# EAGLE library part KWH018ST14-F01_4WSPI (library 1in8_breakout)
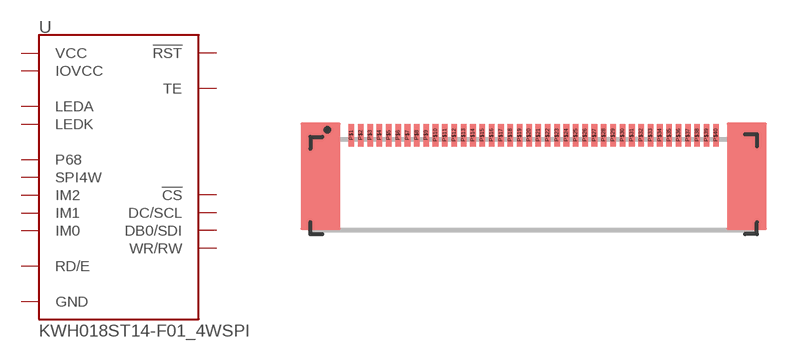
[diagram p1: symbol with the pads of FPC05040-17204; footprint FPC05040-17204]

Designator prefix U

## KWH018ST14-F01_4WSPI  [FPC05040-17204]
P$1  GND
P$6  GND
P$7  IM0
P$8  IM1
P$9  IM2
P$10  P68
P$11  SPI4W
P$12  !CS
P$13  DC/SCL
P$14  WR/RW
P$15  RD/E
P$16  DB0/SDI
P$17  GND
P$18  GND
P$19  GND
P$20  GND
P$21  GND
P$22  GND
P$23  GND
P$24  GND
P$25  GND
P$26  GND
P$27  GND
P$28  GND
P$29  GND
P$30  GND
P$31  GND
P$32  GND
P$33  GND
P$34  TE
P$35  IOVCC
P$36  VCC
P$37  !RST
P$38  GND
P$39  LEDK
P$40  LEDA

## KWH018ST14-F01_4WSPI-REVERSE  [FPC05040-17204]
P$1  LEDA
P$2  LEDK
P$3  GND
P$4  !RST
P$5  VCC
P$6  IOVCC
P$7  TE
P$8  GND
P$9  GND
P$10  GND
P$11  GND
P$12  GND
P$13  GND
P$14  GND
P$15  GND
P$16  GND
P$17  GND
P$18  GND
P$19  GND
P$20  GND
P$21  GND
P$22  GND
P$23  GND
P$24  GND
P$25  DB0/SDI
P$26  RD/E
P$27  WR/RW
P$28  DC/SCL
P$29  !CS
P$30  SPI4W
P$31  P68
P$32  IM2
P$33  IM1
P$34  IM0
P$35  GND
P$40  GND

## Footprint FPC05040-17204 (pad centres in mm)
This is a 40-pin FPC connector supplied by Atom. SparkFun SKU is CONN-14082
smd 0.3 x 1.2: P$1 -9.75,0.6; P$2 -9.25,0.6; P$3 -8.75,0.6; P$4 -8.25,0.6; P$5 -7.75,0.6; P$6 -7.25,0.6; P$7 -6.75,0.6; P$8 -6.25,0.6; P$9 -5.75,0.6; P$10 -5.25,0.6; P$11 -4.75,0.6; P$12 -4.25,0.6; P$13 -3.75,0.6; P$14 -3.25,0.6; P$15 -2.75,0.6; P$16 -2.25,0.6; P$17 -1.75,0.6; P$18 -1.25,0.6; P$19 -0.75,0.6; P$20 -0.25,0.6; P$21 0.25,0.6; P$22 0.75,0.6; P$23 1.25,0.6; P$24 1.75,0.6; P$25 2.25,0.6; P$26 2.75,0.6; P$27 3.25,0.6; P$28 3.75,0.6; P$29 4.25,0.6; P$30 4.75,0.6; P$31 5.25,0.6; P$32 5.75,0.6; P$33 6.25,0.6; P$34 6.75,0.6; P$35 7.25,0.6; P$36 7.75,0.6; P$37 8.25,0.6; P$38 8.75,0.6; P$39 9.25,0.6; P$40 9.75,0.6